# EAGLE library part DC-DC_REGULATOR (library libami)
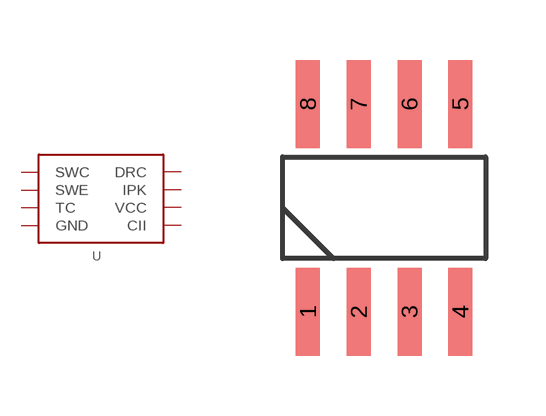
[diagram p7: symbol with the pads of SO-08; footprint SO-08]

Designator prefix -

## DC-DC_REGULATOR  [SO-08]
1  SWC
2  SWE
3  TC
4  GND  pwr
5  CII
6  VCC  pwr
7  IPK
8  DRC

## Footprint SO-08 (pad centres in mm)
Small Outline Narrow Plastic Gull Wing 150-mil body, package type SN
smd 0.6 x 2.2: 1 -1.27,-2.6; 2 0,-2.6; 3 1.27,-2.6; 4 2.54,-2.6; 5 2.54,2.6; 6 1.27,2.6; 7 0,2.6; 8 -1.27,2.6